# EAGLE library part FT4232H (library rgb_cube)
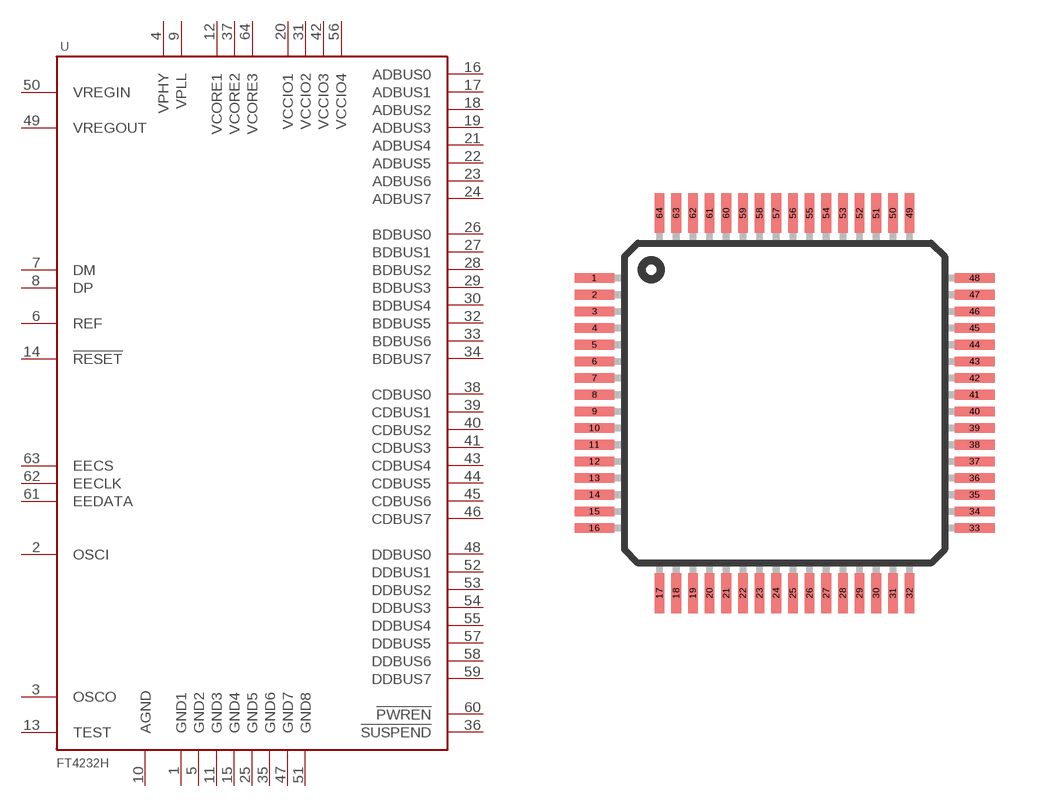
[diagram p39: symbol with the pads of TQFP64; footprint TQFP64]

Designator prefix -

## FT4232H  [TQFP64]
1  GND1
2  OSCI
3  OSCO
4  VPHY
5  GND2
6  REF
7  DM
8  DP
9  VPLL
10  AGND
11  GND3
12  VCORE1
13  TEST
14  !RESET
15  GND4
16  ADBUS0
17  ADBUS1
18  ADBUS2
19  ADBUS3
20  VCCIO1
21  ADBUS4
22  ADBUS5
23  ADBUS6
24  ADBUS7
25  GND5
26  BDBUS0
27  BDBUS1
28  BDBUS2
29  BDBUS3
30  BDBUS4
31  VCCIO2
32  BDBUS5
33  BDBUS6
34  BDBUS7
35  GND6
36  !SUSPEND
37  VCORE2
38  CDBUS0
39  CDBUS1
40  CDBUS2
41  CDBUS3
42  VCCIO3
43  CDBUS4
44  CDBUS5
45  CDBUS6
46  CDBUS7
47  GND7
48  DDBUS0
49  VREGOUT
50  VREGIN
51  GND8
52  DDBUS1
53  DDBUS2
54  DDBUS3
55  DDBUS4
56  VCCIO4
57  DDBUS5
58  DDBUS6
59  DDBUS7
60  !PWREN
61  EEDATA
62  EECLK
63  EECS
64  VCORE3

## Footprint TQFP64 (pad centres in mm)
smd 1.2 x 0.29: 1 -5.7,3.75; 2 -5.7,3.25; 3 -5.7,2.75; 4 -5.7,2.25; 5 -5.7,1.75; 6 -5.7,1.25; 7 -5.7,0.75; 8 -5.7,0.25; 9 -5.7,-0.25; 10 -5.7,-0.75; 11 -5.7,-1.25; 12 -5.7,-1.75; 13 -5.7,-2.25; 14 -5.7,-2.75; 15 -5.7,-3.25; 16 -5.7,-3.75; 33 5.7,-3.75; 34 5.7,-3.25; 35 5.7,-2.75; 36 5.7,-2.25; 37 5.7,-1.75; 38 5.7,-1.25; 39 5.7,-0.75; 40 5.7,-0.25; 41 5.7,0.25; 42 5.7,0.75; 43 5.7,1.25; 44 5.7,1.75; 45 5.7,2.25; 46 5.7,2.75; 47 5.7,3.25; 48 5.7,3.75
smd 0.29 x 1.2: 17 -3.75,-5.7; 18 -3.25,-5.7; 19 -2.75,-5.7; 20 -2.25,-5.7; 21 -1.75,-5.7; 22 -1.25,-5.7; 23 -0.75,-5.7; 24 -0.25,-5.7; 25 0.25,-5.7; 26 0.75,-5.7; 27 1.25,-5.7; 28 1.75,-5.7; 29 2.25,-5.7; 30 2.75,-5.7; 31 3.25,-5.7; 32 3.75,-5.7; 49 3.75,5.7; 50 3.25,5.7; 51 2.75,5.7; 52 2.25,5.7; 53 1.75,5.7; 54 1.25,5.7; 55 0.75,5.7; 56 0.25,5.7; 57 -0.25,5.7; 58 -0.75,5.7; 59 -1.25,5.7; 60 -1.75,5.7; 61 -2.25,5.7; 62 -2.75,5.7; 63 -3.25,5.7; 64 -3.75,5.7